# EAGLE library part REF3440TIDBVR (library REF3440TIDBVR)
Voltage References 4.1-V, low-drift, low-power, small-footprint series voltage reference Source: Datasheet <https://www.ti.com/lit/ds/symlink/ref3425.pdf?ts=1626722188647>
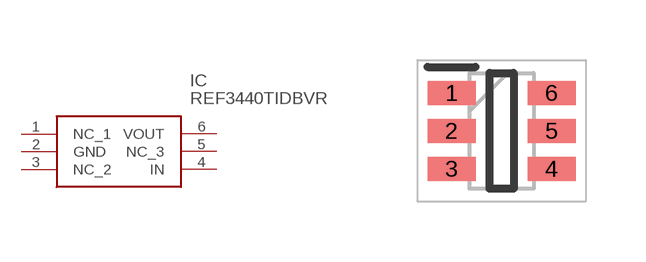
[diagram p0: symbol with the pads of SOT95P280X145-6N; footprint SOT95P280X145-6N]

Designator prefix IC

## REF3440TIDBVR (Description: Voltage References 4.1-V, low-drift, low-power, small-footprint series voltage reference; Height: 1.45mm; Manufacturer_Name: Texas Instruments; Manufacturer_Part_Number: REF3440TIDBVR; Mouser_Part_Number: 595-REF3440TIDBVR; Mouser_Price-Stock: https://www.mouser.co.uk/ProductDetail/Texas-Instruments/REF3440TIDBVR?qs=aP1CjGhiNiFrJEFwygVNiw%3D%3D)  [SOT95P280X145-6N]
1  NC_1
2  GND
3  NC_2
4  IN
5  NC_3
6  VOUT

## Footprint SOT95P280X145-6N (pad centres in mm)
DBV0006A
smd 1.2 x 0.6: 1 -1.25,0.95; 2 -1.25,0; 3 -1.25,-0.95; 4 1.25,-0.95; 5 1.25,0; 6 1.25,0.95